# EAGLE library part ZLDO330 (library 1_USER)
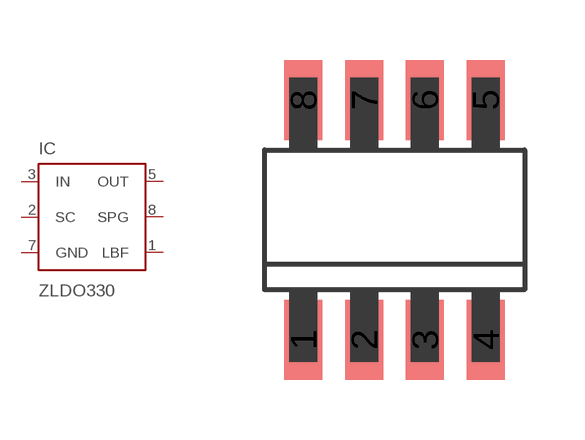
[diagram p19: symbol with the pads of SM8; footprint SM8]

Designator prefix IC

## ZLDO330  [SM8]
1  LBF  out
2  SC  in
3  IN  in
5  OUT  out
7  GND  pwr
8  SPG  in

## Footprint SM8 (pad centres in mm)
smd 0.95 x 2: 1 -2.28,-3; 2 -0.76,-3; 3 0.76,-3; 4 2.28,-3; 5 2.28,3; 6 0.76,3; 7 -0.76,3; 8 -2.28,3